# Altium integrated library lib_c2020.IntLib: 7 symbols
Pins are listed as number, name and electrical type; pins without a type are passive.

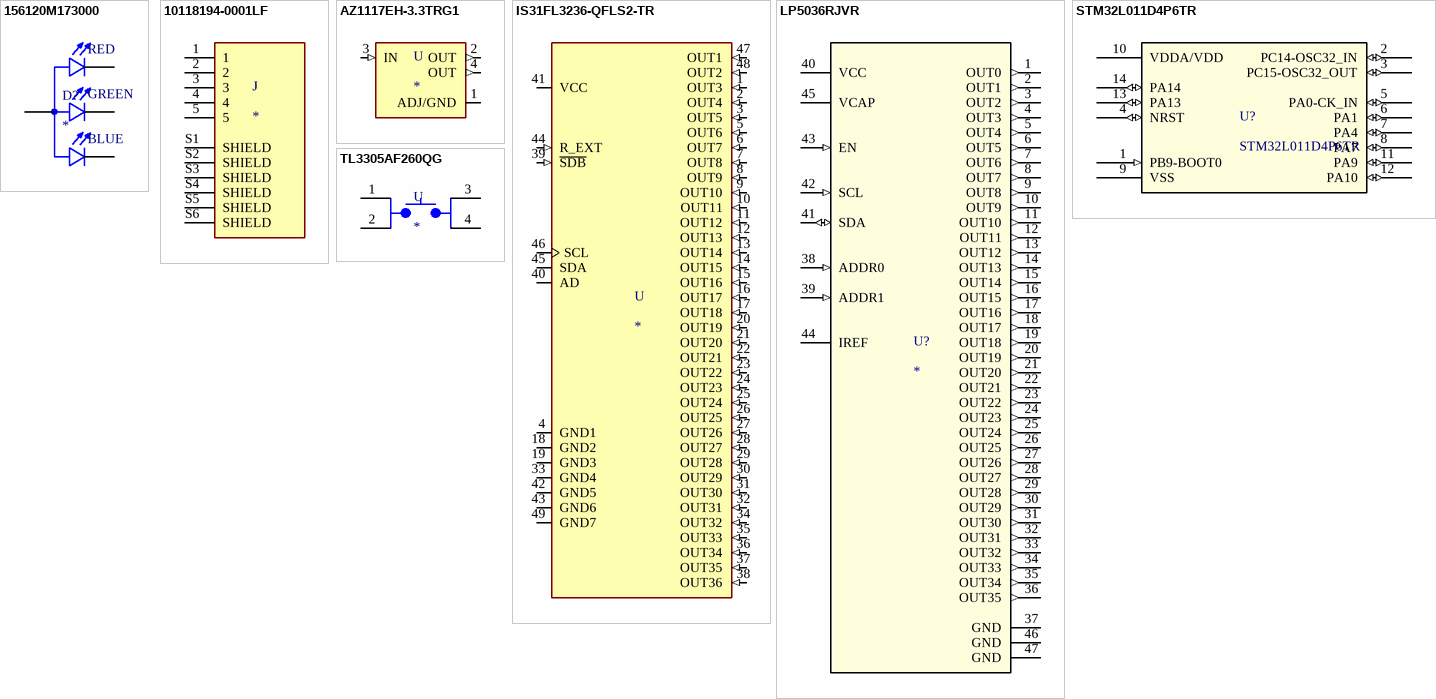
[diagram p0: symbols 156120M173000 to TL3305AF260QG]

## 156120M173000
designator D?
Red, Green, Blue (RGB) 624nm Red, 525nm Green, 470nm Blue LED Indication - Discrete 2V Red, 3.3V Green, 3.3V Blue 1206 (3216 Metric); MP: 156120M173000; MF: Wurth Electronics; Package: 1206 Wurth Electronics Inc.; Purchase-URL: https://pricing.snapeda.com/search/part/156120M173000/?ref=eda; SnapEDA_Link: https://www.snapeda.com/parts/156120M173000/Wurth%20Electronics%20Inc./view-part/3623792/?ref=snap; Value: *; Check_prices: https://www.snapeda.com/parts/156120M173000/Wurth%20Electronics%20Inc./view-part/3623792/?ref=eda
footprint LED_156120M173000
pins: 1 A, 2 B_C, 3 R_C, 4 G_C
text: RED; GREEN; BLUE

## 10118194-0001LF
designator J
USB - micro B USB 2.0 Receptacle Connector 5 Position Surface Mount, Right Angle; Through Hole; MF: Amphenol ICC; MP: 10118194-0001LF; Package: None; Price: None; Availability: Unavailable; SnapEDA_Link: https://www.snapeda.com/parts/10118194-0001LF/Amphenol%20FCI/view-part/1413308/?ref=snap; Value: *
footprint AMPHENOL_10118194-0001LF
pins: 1, 2, 3, 4, 5, S1 SHIELD, S2 SHIELD, S3 SHIELD, S4 SHIELD, S5 SHIELD, S6 SHIELD

## AZ1117EH-3.3TRG1
designator U
Linear Voltage Regulator IC 1 Output 1A SOT-223; MF: Diodes Inc.; MP: AZ1117EH-3.3TRG1; Package: SOT-223 Diodes Inc.; Value: *; Price: None; SnapEDA_Link: https://www.snapeda.com/parts/AZ1117EH-3.3TRG1/Diodes%20Inc./view-part/482930/?ref=snap; Availability: Unavailable
footprint SOT230P700X180-4N
pins: 1 ADJ/GND (power), 2 OUT (out), 3 IN (in), 4 OUT (out)

## IS31FL3236-QFLS2-TR
designator U
LED Driver IC 36 Output Linear IÂ²C Dimming 38mA 44-QFN (5x5); MF: ISSI, Integrated; MP: IS31FL3236-QFLS2-TR; Digi-Key_Part_Number: 706-1434-1-ND; Value: *; SnapEDA_Link: https://www.snapeda.com/parts/IS31FL3236-QFLS2-TR/ISSI,%20Integrated%20Silicon%20Solution%20Inc/view-part/328010/?ref=snap; Package: QFN-44 ISSI
footprint QFP50P900X900X160-48N
pins: 1 OUT3 (in), 2 OUT4 (in), 3 OUT5 (in), 4 GND1 (power), 5 OUT6 (in), 6 OUT7 (in), 7 OUT8 (in), 8 OUT9 (in), 9 OUT10 (in), 10 OUT11 (in), 11 OUT12 (in), 12 OUT13 (in), 13 OUT14 (in), 14 OUT15 (in), 15 OUT16 (in), 16 OUT17 (in), 17 OUT18 (in), 18 GND2 (power), 19 GND3 (power), 20 OUT19 (in), 21 OUT20 (in), 22 OUT21 (in), 23 OUT22 (in), 24 OUT23 (in), 25 OUT24 (in), 26 OUT25 (in), 27 OUT26 (in), 28 OUT27 (in), 29 OUT28 (in), 30 OUT29 (in), 31 OUT30 (in), 32 OUT31 (in), 33 GND4 (power), 34 OUT32 (in), 35 OUT33 (in), 36 OUT34 (in), 37 OUT35 (in), 38 OUT36 (in), 39 ~{SDB} (in), 40 AD (io), 41 VCC (power), 42 GND5 (power), 43 GND6 (power), 44 R_EXT (in), 45 SDA (io), 46 SCL (io), 47 OUT1 (in), 48 OUT2 (in), 49 GND7 (power)

## LP5036RJVR
designator U?
No Description Available; PartNumber: LP5036RJVR; Manufacturer: Texas Instruments; RefDes: RefDes; Type: DEV; Value: Value; Copyright: Copyright (C) 2018 Accelerated Designs. All rights reserved
footprint RJV0046A
pins: 1 OUT0 (out), 2 OUT1 (out), 3 OUT2 (out), 4 OUT3 (out), 5 OUT4 (out), 6 OUT5 (out), 7 OUT6 (out), 8 OUT7 (out), 9 OUT8 (out), 10 OUT9 (out), 11 OUT10 (out), 12 OUT11 (out), 13 OUT12 (out), 14 OUT13 (out), 15 OUT14 (out), 16 OUT15 (out), 17 OUT16 (out), 18 OUT17 (out), 19 OUT18 (out), 20 OUT19 (out), 21 OUT20 (out), 22 OUT21 (out), 23 OUT22 (out), 24 OUT23 (out), 25 OUT24 (out), 26 OUT25 (out), 27 OUT26 (out), 28 OUT27 (out), 29 OUT28 (out), 30 OUT29 (out), 31 OUT30 (out), 32 OUT31 (out), 33 OUT32 (out), 34 OUT33 (out), 35 OUT34 (out), 36 OUT35 (out), 37 GND (power), 38 ADDR0 (in), 39 ADDR1 (in), 40 VCC (power), 41 SDA (io), 42 SCL (in), 43 EN (in), 44 IREF, 45 VCAP (power), 46 GND (power), 47 GND (power)

## STM32L011D4P6TR
designator U?
No Description Available; SourceLibrary: STMicroelectronics_2020-10-07; Built_By: EMA_UL_Team; Vendor: STMicroelectronics; Copyright: Copyright (C) 2018 Accelerated Designs. All rights reserved; Manufacturer_Part_Number: STM32L011D4P6TR; RefDes: RefDes; Type: DEV
footprint TSSOP14
pins: 1 PB9-BOOT0 (in), 2 PC14-OSC32_IN (io), 3 PC15-OSC32_OUT (io), 4 NRST (io), 5 PA0-CK_IN (io), 6 PA1 (io), 7 PA4 (io), 8 PA7 (io), 9 VSS (power), 10 VDDA/VDD (power), 11 PA9 (io), 12 PA10 (io), 13 PA13 (io), 14 PA14 (io)

## TL3305AF260QG
designator U
Tactile Switch SPST-NO Top Actuated Surface Mount; MP: TL3305AF260QG; MF: E-Switch; Price: None; Value: *; Package: LQFP-48 E-Switch; SnapEDA_Link: https://www.snapeda.com/parts/TL3305AF260QG/E-Switch/view-part/479903/?ref=snap; Availability: Unavailable
footprint SW_TL3305AF260QG
pins: 1, 2, 3, 4